# Altium footprint library NIXIEClock_151223.PcbLib: 34 footprints (part 3 of 3)
Each footprint in its own frame and in the unit in brackets; x right, y up, seen from the top. Pads: shape width x height; smd on the part's side, far side on the other; paste and mask are expansions set on the pad; w line width, h text height; cw(c..) or ccw(c..) is an arc to the next point about the centre after c.
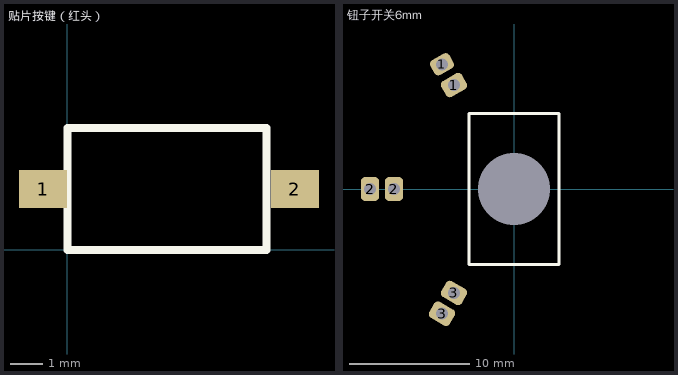
[diagram p2: the footprints below, top view; thin cyan lines are the x and y axes]

## 贴片按键（红头） [mm]
pads (2):
  rect 1.5x1.2 smd: 1(-0.762,1.905) 2(7.112,1.905)
Top Overlay:
  lines w0.254: 0,0 6.223,0 6.223,3.81 0,3.81 0,0

## 钮子开关6mm [mm]
pads (7):
  rrect50% 1.8x1.4 hole 1 rot 30: 1(-6,10.392)
  rrect50% 2x1.524 hole 1 rot 30: 1(-5,8.66)
  rrect50% 1.524x2 hole 1: 2(-12,0) 2(-10,0)
  rrect50% 2x1.524 hole 1 rot 150: 3(-6,-10.392) 3(-5,-8.66)
  round 0 hole 6 unplated: 4(0,0)
Top Overlay:
  lines w0.254: -3.75,-6.275 -3.75,6.275 3.75,6.275 3.75,-6.275 -3.75,-6.275
Bottom Solder:
  lines w0.254: -6,-10.392 cw(c0,0) -6,10.392 ; -5,-8.66 cw(c0,0) -5,8.66